# EAGLE library part XB3-24Z8UM-J_XB3-24Z8UM-J (library Node)
XBee3, 2.4 GHz ZB 3.0, U.FL Ant, MMT Check prices <https://pricing.snapeda.com/parts/XB3-24Z8UM-J/Digi%20International/view-part?ref=eda>
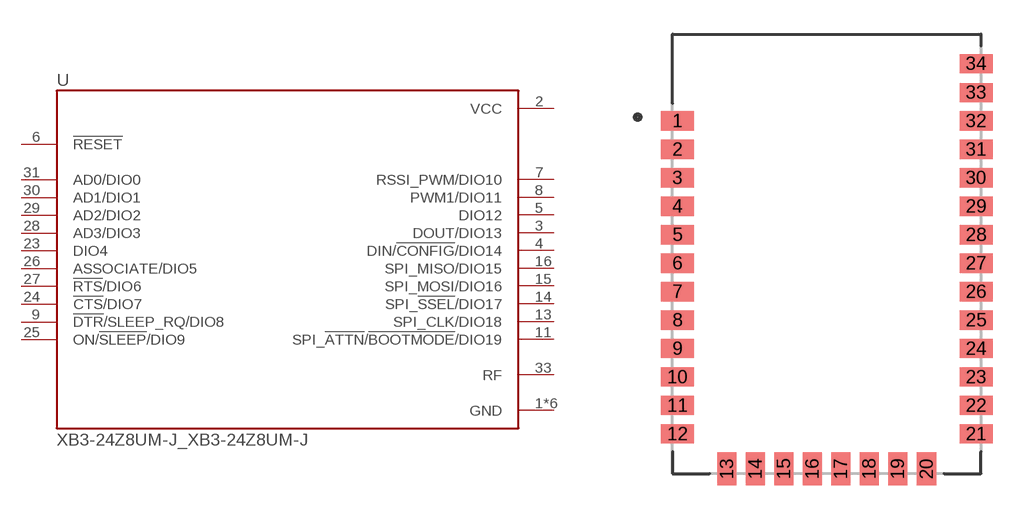
[diagram p4: symbol with the pads of XB3-24Z8UM-J_XCVR_XB3-24Z8UM-J; footprint XB3-24Z8UM-J_XCVR_XB3-24Z8UM-J]

Designator prefix U

## XB3-24Z8UM-J_XB3-24Z8UM-J (AVAILABILITY: Good; DESCRIPTION: 802.15.4 Zigbee® Transceiver Module 2.4GHz Antenna Not Included, U.FL Surface Mount; MF: Digi International; MP: XB3-24Z8UM-J; PACKAGE: SMD-34 Digi International; PRICE: None; PURCHASE-URL: https://pricing.snapeda.com/search/part/XB3-24Z8UM-J/?ref=eda)  [XB3-24Z8UM-J_XCVR_XB3-24Z8UM-J]
1  GND  pwr
2  VCC  pwr
3  DOUT/DIO13
4  DIN/!CONFIG!/DIO14
5  DIO12
6  !RESET  in
7  RSSI_PWM/DIO10
8  PWM1/DIO11
9  !DTR!/SLEEP_RQ/DIO8
10  GND  pwr
11  SPI_!ATTN!/!BOOTMODE!/DIO19
12  GND  pwr
13  SPI_CLK/DIO18
14  SPI_!SSEL!/DIO17
15  SPI_MOSI/DIO16
16  SPI_MISO/DIO15
21  GND  pwr
23  DIO4
24  !CTS!/DIO7
25  ON/!SLEEP!/DIO9
26  ASSOCIATE/DIO5
27  !RTS!/DIO6
28  AD3/DIO3
29  AD2/DIO2
30  AD1/DIO1
31  AD0/DIO0
32  GND  pwr
33  RF
34  GND  pwr

## Footprint XB3-24Z8UM-J_XCVR_XB3-24Z8UM-J (pad centres in mm)
smd 1.448 x 0.838: 1 -6.553,5.842; 2 -6.553,4.592; 3 -6.553,3.343; 4 -6.553,2.093; 5 -6.553,0.843; 6 -6.553,-0.406; 7 -6.553,-1.656; 8 -6.553,-2.906; 9 -6.553,-4.155; 10 -6.553,-5.405; 11 -6.553,-6.655; 12 -6.553,-7.904; 21 6.553,-7.904; 22 6.553,-6.655; 23 6.553,-5.405; 24 6.553,-4.155; 25 6.553,-2.906; 26 6.553,-1.656; 27 6.553,-0.406; 28 6.553,0.843; 29 6.553,2.093; 30 6.553,3.343; 31 6.553,4.592; 32 6.553,5.842; 33 6.553,7.092; 34 6.553,8.357
smd 0.838 x 1.448: 13 -4.381,-9.436; 14 -3.132,-9.436; 15 -1.882,-9.436; 16 -0.632,-9.436; 17 0.617,-9.436; 18 1.867,-9.436; 19 3.117,-9.436; 20 4.381,-9.436